# EAGLE library part LTC3808 (library PowerProducts)
No Rsense, Low EMI, Synchronous DC/DC Controller with Output Tracking
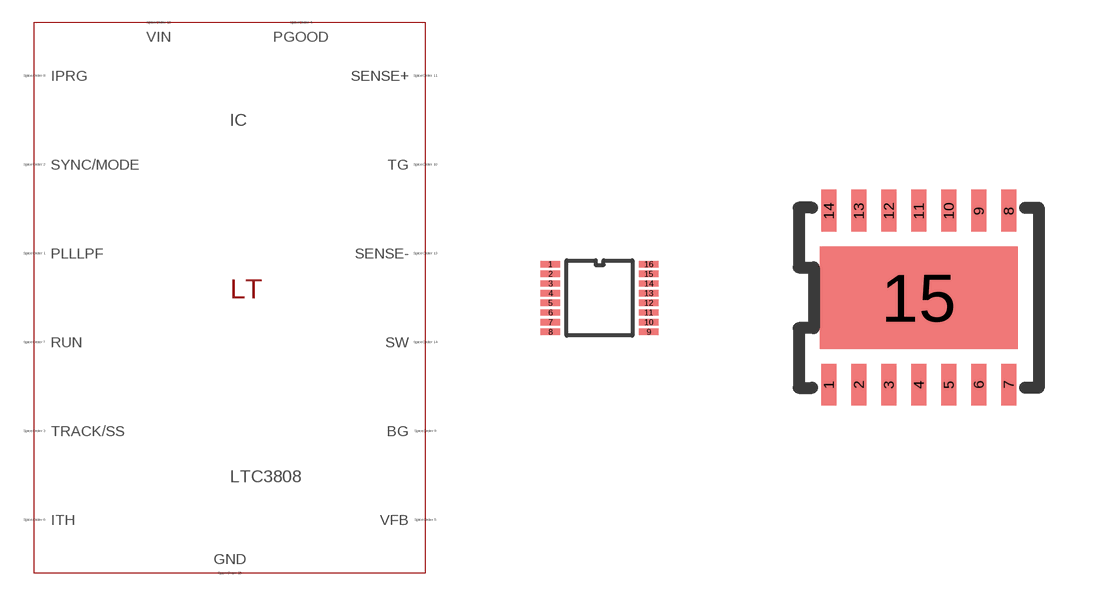
[diagram p338: symbol with the pads of SSOP16(GN); footprints SSOP16(GN), DFN14(DE)]

Designator prefix IC

## LTC3808GN (SPICEMODEL: LTC3808.sub; SPICEPREFIX: X; VALUE2: LTC3808)  [SSOP16(GN)]
1  GND  pas
2  PLLLPF  pas
3  SYNC/MODE  pas
4  TRACK/SS  pas
5  PGOOD  pas
6  VFB  pas
7  ITH  pas
8  RUN  pas
9  GND  pas
10  IPRG  pas
11  BG  pas
12  TG  pas
13  SENSE+  pas
14  VIN  pas
15  SENSE-  pas
16  SW  pas

## LTC3808 (SPICEMODEL: LTC3808.sub; SPICEPREFIX: X; VALUE2: LTC3808)  [DFN14(DE)]
1  PLLLPF  pas
2  SYNC/MODE  pas
3  TRACK/SS  pas
4  PGOOD  pas
5  VFB  pas
6  ITH  pas
7  RUN  pas
8  IPRG  pas
9  BG  pas
10  TG  pas
11  SENSE+  pas
12  VIN  pas
13  SENSE-  pas
14  SW  pas
15  GND  pas

## Footprint SSOP16(GN) (pad centres in mm)
Package generated from: SSOP16(GN).asc (!PADS-POWERPCB-V5.0-BASIC! DESIGN DATABASE ASCII FILE 1.0) with :import-pads-powerpcb-v5.ulp Version 1.0.1 at 04.10.2012 14:11:37
smd 0.484 x 0.16: 1 -1.229,0.847; 2 -1.229,0.605; 3 -1.229,0.363; 4 -1.229,0.121; 5 -1.229,-0.121; 6 -1.229,-0.363; 7 -1.229,-0.605; 8 -1.229,-0.847; 9 1.229,-0.847; 10 1.229,-0.605; 11 1.229,-0.363; 12 1.229,-0.121; 13 1.229,0.121; 14 1.229,0.363; 15 1.229,0.605; 16 1.229,0.847

## Footprint DFN14(DE) (pad centres in mm)
Package generated from: DFN14(DE).asc (!PADS-POWERPCB-V5.0-BASIC! DESIGN DATABASE ASCII FILE 1.0) with :import-pads-powerpcb-v5.ulp Version 1.0.1 at 04.10.2012 14:11:16
smd 0.375 x 1.05: 1 -2.25,-2.175; 2 -1.5,-2.175; 3 -0.75,-2.175; 4 0,-2.175; 5 0.75,-2.175; 6 1.5,-2.175; 7 2.25,-2.175; 8 2.25,2.175; 9 1.5,2.175; 10 0.75,2.175; 11 0,2.175; 12 -0.75,2.175; 13 -1.5,2.175; 14 -2.25,2.175
smd 4.95 x 2.55: 15 0,0